# Altium schematic symbol library 1048.SchLib: 1 symbol
Pins are listed as number, name and electrical type; pins without a type are passive.

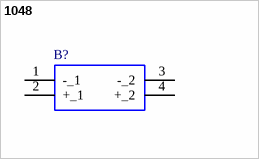
[diagram p0: symbol 1048]

## 1048
designator B?
KEYSTONE - 1048 - BATTERY HOLDER, 18650 LI-ION, 2CELL, SMD; Manufacturer_Name: Keystone Electronics; Mouser Part Number: 534-1048; Mouser Price/Stock: https://www.mouser.co.uk/ProductDetail/Keystone-Electronics/1048?qs=%2F7TOpeL5Mz5jXkg8vI8Dyw%3D%3D; Manufacturer_Part_Number: 1048; Datasheet Link: http://www.keyelco.com/product-pdf.cfm?p=920
footprint 1048
pins: 1 -_1, 2 +_1, 3 -_2, 4 +_2